# EAGLE library part SI4459AD (library Neel)
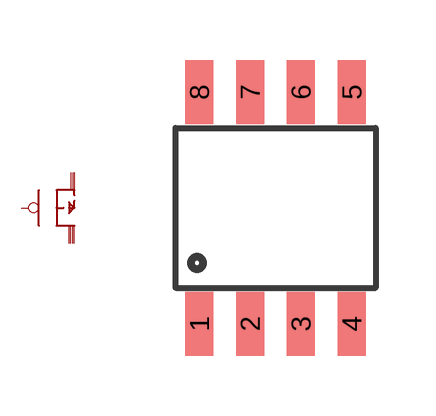
[diagram p29: symbol with the pads of SO-8; footprint SO-8]

Designator prefix -

## SI4459AD  [SO-8]
1  S1
2  S2
3  S3
4  G4
5  D5
6  D6
7  D7
8  D8

## Footprint SO-8 (pad centres in mm)
smd 0.7 x 1.6: 1 -1.905,-2.9; 2 -0.635,-2.9; 3 0.635,-2.9; 4 1.905,-2.9; 5 1.905,2.9; 6 0.635,2.9; 7 -0.635,2.9; 8 -1.905,2.9